# Altium integrated library NSC Amplifier.IntLib: 1615 symbols (part 19 of 44)
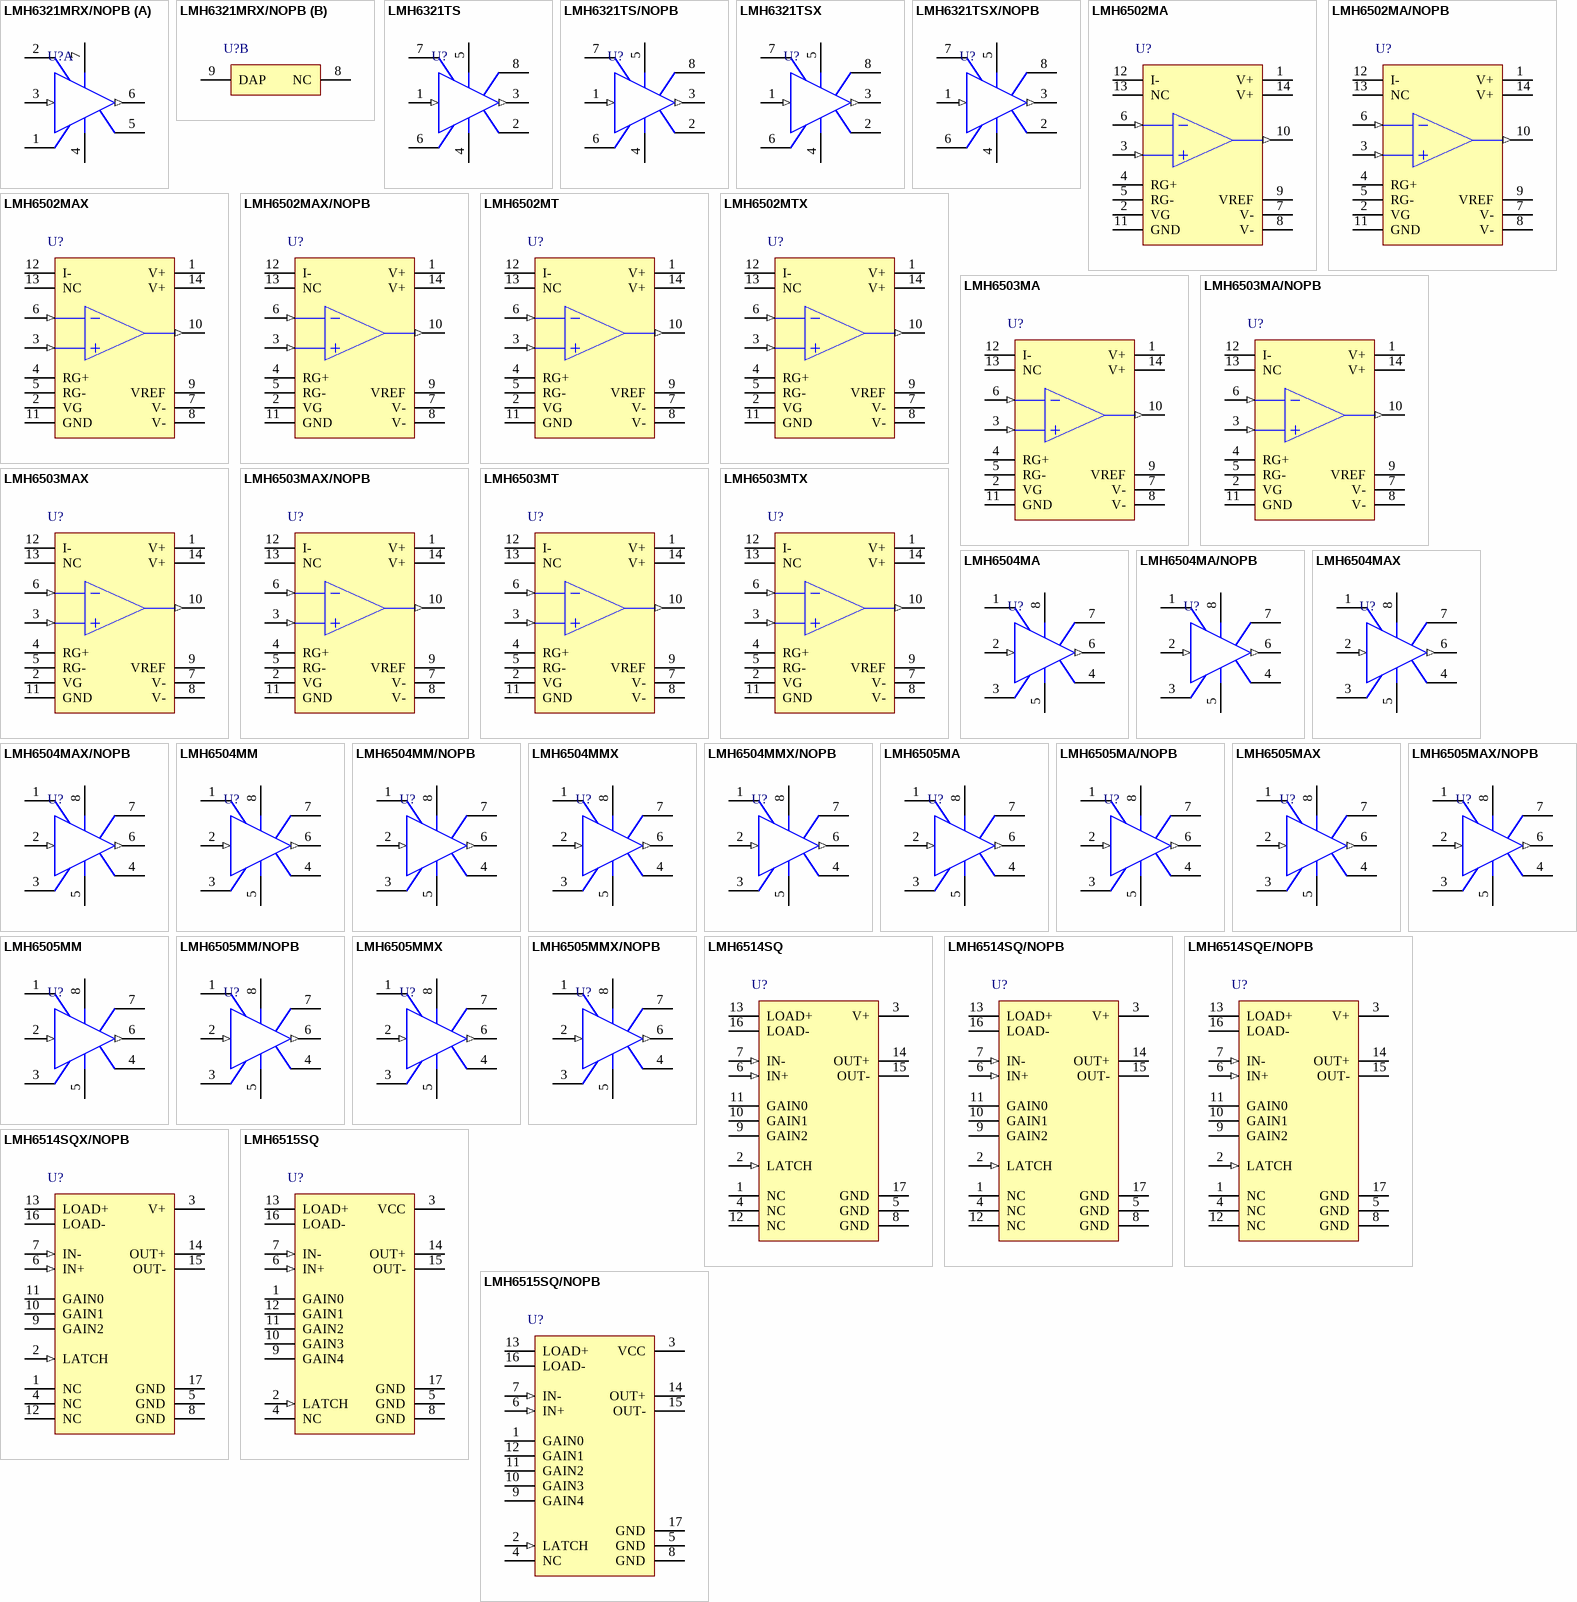
[diagram p100: symbols LMH6321MRX/NOPB to LMH6515SQ/NOPB]

## LMH6321TSX/NOPB
designator U?
300 mA High Speed Buffer with Adjustable Current Limit, 7-pin TO-263, Pb-Free; PartNumber: LMH6321TSX/NOPB; Manufacturer: National Semiconductor; PackageTopMarking: NSUZXYTTE#*LMH6321TS; PowerWise: N; CompType: Amplifiers; Published: 1-Mar-2010; DatasheetVersion: Apr-2007; PackageVersion: revE, Jul-2003; PackageReference: TS7B; Publisher: Altium Limited; PackageDescription: TO-263, Molded, .400 x .390 x .180in Body, 7 Lead, .050in Pitch, Surface Mount; Supplier 1: Digi-Key; Supplier Part Number 1: LMH6321TSX-ND; RoHS: Y; PinCount: 7; Code_JEDEC: MO-169-AC; ComponentLink1Description: LMH6321 Datasheet; ComponentLink1URL: http://www.national.com/ds/LM/LMH6321.pdf; ComponentLink2Description: LMH6321 Web Page; ComponentLink2URL: http://www.national.com/pf/LM/LMH6321.html; ComponentLink3Description: TS7B Package Page; ComponentLink3URL: http://www.national.com/packaging/folders/ts7b.html
footprint TS7B_N (D2-PAK, 8-Leads, Body 8.6x10.2mm, Pitch 1.27mm, Lead Span 14.1mm, IPC Medium Density)
footprint TS7B_L (D2-PAK, 8-Leads, Body 8.6x10.2mm, Pitch 1.27mm, Lead Span 14.1mm, IPC High Density)
footprint TS7B_M (D2-PAK, 8-Leads, Body 8.6x10.2mm, Pitch 1.27mm, Lead Span 14.1mm, IPC Low Density)
simulation model LMH6321 (SUBCKT)
pins: 1 IN (in), 2 GND (power), 3 OUT (out), 4 V- (power), 5 V+ (power), 6 EF, 7 CL, 8 TAB

## LMH6502MA
designator U?
Wideband, Low Power, Linear-in-dB Variable Gain Amplifier, 14-pin Narrow SOIC; PartNumber: LMH6502MA; Manufacturer: National Semiconductor; PackageTopMarking: NSUZXYTTE#*LMH6502MA; PowerWise: N; CompType: Amplifiers; Published: 4-Dec-2008; LatestRevisionDate: 13-Jan-2009; LatestRevisionNote: Sim Model Added.; DatasheetVersion: Jun-2004; PackageVersion: revJ, Jan-1996; PackageReference: M14A; Publisher: Altium Limited; PackageDescription: Molded Package S.O., .150in Wide, 14 Lead; Supplier 1: Farnell; Supplier Part Number 1: 8181047; RoHS: N; PinCount: 14; Code_JEDEC: MS-012AB; Code_IPC: SOIC127P600-14; ComponentLink1Description: LMH6502 Datasheet; ComponentLink1URL: http://www.national.com/ds/LM/LMH6502.pdf; ComponentLink2Description: LMH6502 Web Page; ComponentLink2URL: http://www.national.com/pf/LM/LMH6502.html; ComponentLink3Description: M14A Package Page; ComponentLink3URL: http://www.national.com/packaging/folders/m14a.html
footprint M14A_N (SOIC, 14-Leads, Body 8.6x3.9mm, Pitch 1.27mm, IPC Medium Density)
footprint M14A_L (SOIC, 14-Leads, Body 8.6x3.9mm, Pitch 1.27mm, IPC High Density)
footprint M14A_M (SOIC, 14-Leads, Body 8.6x3.9mm, Pitch 1.27mm, IPC Low Density)
simulation model LMH6502 (SUBCKT)
pins: 1 V+ (power), 2 VG, 3 VIN+ (in), 4 RG+, 5 RG-, 6 VIN- (in), 7 V- (power), 8 V- (power), 9 VREF, 10 VOUT (out), 11 GND (power), 12 I-, 13 NC, 14 V+ (power)

## LMH6502MA/NOPB
designator U?
Wideband, Low Power, Linear-in-dB Variable Gain Amplifier, 14-pin Narrow SOIC, Pb-Free; PartNumber: LMH6502MA/NOPB; Manufacturer: National Semiconductor; PackageTopMarking: NSUZXYTTE#*LMH6502MA; PowerWise: N; CompType: Amplifiers; Published: 1-Mar-2010; DatasheetVersion: Jun-2004; PackageVersion: revJ, Jan-1996; PackageReference: M14A; Publisher: Altium Limited; PackageDescription: Molded Package S.O., .150in Wide, 14 Lead; Supplier 1: Digi-Key; Supplier Part Number 1: LMH6502MA-ND; Supplier 2: Farnell; Supplier Part Number 2: 1693951; RoHS: Y; PinCount: 14; Code_JEDEC: MS-012AB; Code_IPC: SOIC127P600-14; ComponentLink1Description: LMH6502 Datasheet; ComponentLink1URL: http://www.national.com/ds/LM/LMH6502.pdf; ComponentLink2Description: LMH6502 Web Page; ComponentLink2URL: http://www.national.com/pf/LM/LMH6502.html; ComponentLink3Description: M14A Package Page; ComponentLink3URL: http://www.national.com/packaging/folders/m14a.html
footprint M14A_N (SOIC, 14-Leads, Body 8.6x3.9mm, Pitch 1.27mm, IPC Medium Density)
footprint M14A_L (SOIC, 14-Leads, Body 8.6x3.9mm, Pitch 1.27mm, IPC High Density)
footprint M14A_M (SOIC, 14-Leads, Body 8.6x3.9mm, Pitch 1.27mm, IPC Low Density)
simulation model LMH6502 (SUBCKT)
pins: 1 V+ (power), 2 VG, 3 VIN+ (in), 4 RG+, 5 RG-, 6 VIN- (in), 7 V- (power), 8 V- (power), 9 VREF, 10 VOUT (out), 11 GND (power), 12 I-, 13 NC, 14 V+ (power)

## LMH6502MAX
designator U?
Wideband, Low Power, Linear-in-dB Variable Gain Amplifier, 14-pin Narrow SOIC; PartNumber: LMH6502MAX; Manufacturer: National Semiconductor; PackageTopMarking: NSUZXYTTE#*LMH6502MA; PowerWise: N; CompType: Amplifiers; Published: 1-Mar-2010; DatasheetVersion: Jun-2004; PackageVersion: revJ, Jan-1996; PackageReference: M14A; Publisher: Altium Limited; PackageDescription: Molded Package S.O., .150in Wide, 14 Lead; RoHS: N; PinCount: 14; Code_JEDEC: MS-012AB; Code_IPC: SOIC127P600-14; ComponentLink1Description: LMH6502 Datasheet; ComponentLink1URL: http://www.national.com/ds/LM/LMH6502.pdf; ComponentLink2Description: LMH6502 Web Page; ComponentLink2URL: http://www.national.com/pf/LM/LMH6502.html; ComponentLink3Description: M14A Package Page; ComponentLink3URL: http://www.national.com/packaging/folders/m14a.html
footprint M14A_N (SOIC, 14-Leads, Body 8.6x3.9mm, Pitch 1.27mm, IPC Medium Density)
footprint M14A_L (SOIC, 14-Leads, Body 8.6x3.9mm, Pitch 1.27mm, IPC High Density)
footprint M14A_M (SOIC, 14-Leads, Body 8.6x3.9mm, Pitch 1.27mm, IPC Low Density)
simulation model LMH6502 (SUBCKT)
pins: 1 V+ (power), 2 VG, 3 VIN+ (in), 4 RG+, 5 RG-, 6 VIN- (in), 7 V- (power), 8 V- (power), 9 VREF, 10 VOUT (out), 11 GND (power), 12 I-, 13 NC, 14 V+ (power)

## LMH6502MAX/NOPB
designator U?
Wideband, Low Power, Linear-in-dB Variable Gain Amplifier, 14-pin Narrow SOIC, Pb-Free; PartNumber: LMH6502MAX/NOPB; Manufacturer: National Semiconductor; PackageTopMarking: NSUZXYTTE#*LMH6502MA; PowerWise: N; CompType: Amplifiers; Published: 1-Mar-2010; DatasheetVersion: Jun-2004; PackageVersion: revJ, Jan-1996; PackageReference: M14A; Publisher: Altium Limited; PackageDescription: Molded Package S.O., .150in Wide, 14 Lead; Supplier 1: Digi-Key; Supplier Part Number 1: LMH6502MAX-ND; RoHS: Y; PinCount: 14; Code_JEDEC: MS-012AB; Code_IPC: SOIC127P600-14; ComponentLink1Description: LMH6502 Datasheet; ComponentLink1URL: http://www.national.com/ds/LM/LMH6502.pdf; ComponentLink2Description: LMH6502 Web Page; ComponentLink2URL: http://www.national.com/pf/LM/LMH6502.html; ComponentLink3Description: M14A Package Page; ComponentLink3URL: http://www.national.com/packaging/folders/m14a.html
footprint M14A_N (SOIC, 14-Leads, Body 8.6x3.9mm, Pitch 1.27mm, IPC Medium Density)
footprint M14A_L (SOIC, 14-Leads, Body 8.6x3.9mm, Pitch 1.27mm, IPC High Density)
footprint M14A_M (SOIC, 14-Leads, Body 8.6x3.9mm, Pitch 1.27mm, IPC Low Density)
simulation model LMH6502 (SUBCKT)
pins: 1 V+ (power), 2 VG, 3 VIN+ (in), 4 RG+, 5 RG-, 6 VIN- (in), 7 V- (power), 8 V- (power), 9 VREF, 10 VOUT (out), 11 GND (power), 12 I-, 13 NC, 14 V+ (power)

## LMH6502MT
designator U?
Wideband, Low Power, Linear-in-dB Variable Gain Amplifier, 14-pin TSSOP; PartNumber: LMH6502MT; Manufacturer: National Semiconductor; PackageTopMarking: NSUZXYTT*LMH65*02MT; PowerWise: N; CompType: Amplifiers; Published: 4-Dec-2008; LatestRevisionDate: 13-Jan-2009; LatestRevisionNote: Sim Model Added.; DatasheetVersion: Jun-2004; PackageVersion: revD, Jun-2003; PackageReference: MTC14; Publisher: Altium Limited; PackageDescription: Molded TSSOP, JEDEC, 5 x 4.4 x 0.9mm Body, 14 Lead, 0.65mm Pitch; Supplier 1: Farnell; Supplier Part Number 1: 8181055; RoHS: N; PinCount: 14; Code_JEDEC: MO-153-AB-1; ComponentLink1Description: LMH6502 Datasheet; ComponentLink1URL: http://www.national.com/ds/LM/LMH6502.pdf; ComponentLink2Description: LMH6502 Web Page; ComponentLink2URL: http://www.national.com/pf/LM/LMH6502.html; ComponentLink3Description: MTC14 Package Page; ComponentLink3URL: http://www.national.com/packaging/folders/mtc14.html
footprint MTC14_N (TSOP, 14-Leads, Body 5x4.4mm, Pitch 0.65mm, IPC Medium Density)
footprint MTC14_L (TSOP, 14-Leads, Body 5x4.4mm, Pitch 0.65mm, IPC High Density)
footprint MTC14_M (TSOP, 14-Leads, Body 5x4.4mm, Pitch 0.65mm, IPC Low Density)
simulation model LMH6502 (SUBCKT)
pins: 1 V+ (power), 2 VG, 3 VIN+ (in), 4 RG+, 5 RG-, 6 VIN- (in), 7 V- (power), 8 V- (power), 9 VREF, 10 VOUT (out), 11 GND (power), 12 I-, 13 NC, 14 V+ (power)

## LMH6502MTX
designator U?
Wideband, Low Power, Linear-in-dB Variable Gain Amplifier, 14-pin TSSOP; PartNumber: LMH6502MTX; Manufacturer: National Semiconductor; PackageTopMarking: NSUZXYTT*LMH65*02MT; PowerWise: N; CompType: Amplifiers; Published: 1-Mar-2010; DatasheetVersion: Jun-2004; PackageVersion: revD, Jun-2003; PackageReference: MTC14; Publisher: Altium Limited; PackageDescription: Molded TSSOP, JEDEC, 5 x 4.4 x 0.9mm Body, 14 Lead, 0.65mm Pitch; RoHS: N; PinCount: 14; Code_JEDEC: MO-153-AB-1; ComponentLink1Description: LMH6502 Datasheet; ComponentLink1URL: http://www.national.com/ds/LM/LMH6502.pdf; ComponentLink2Description: LMH6502 Web Page; ComponentLink2URL: http://www.national.com/pf/LM/LMH6502.html; ComponentLink3Description: MTC14 Package Page; ComponentLink3URL: http://www.national.com/packaging/folders/mtc14.html
footprint MTC14_N (TSOP, 14-Leads, Body 5x4.4mm, Pitch 0.65mm, IPC Medium Density)
footprint MTC14_L (TSOP, 14-Leads, Body 5x4.4mm, Pitch 0.65mm, IPC High Density)
footprint MTC14_M (TSOP, 14-Leads, Body 5x4.4mm, Pitch 0.65mm, IPC Low Density)
simulation model LMH6502 (SUBCKT)
pins: 1 V+ (power), 2 VG, 3 VIN+ (in), 4 RG+, 5 RG-, 6 VIN- (in), 7 V- (power), 8 V- (power), 9 VREF, 10 VOUT (out), 11 GND (power), 12 I-, 13 NC, 14 V+ (power)

## LMH6503MA
designator U?
Wideband, Low Power, Linear Variable Gain Amplifier, 14-pin Narrow SOIC; PartNumber: LMH6503MA; Manufacturer: National Semiconductor; PackageTopMarking: NSUZXYTTE#*LMH6503MA; PowerWise: N; CompType: Amplifiers; Published: 4-Dec-2008; LatestRevisionDate: 13-Jan-2009; LatestRevisionNote: Sim Model Added.; DatasheetVersion: Jun-2004; PackageVersion: revJ, Jan-1996; PackageReference: M14A; Publisher: Altium Limited; PackageDescription: Molded Package S.O., .150in Wide, 14 Lead; Supplier 1: Farnell; Supplier Part Number 1: 8181063; RoHS: N; PinCount: 14; Code_JEDEC: MS-012AB; Code_IPC: SOIC127P600-14; ComponentLink1Description: LMH6503 Datasheet; ComponentLink1URL: http://www.national.com/ds/LM/LMH6503.pdf; ComponentLink2Description: LMH6503 Web Page; ComponentLink2URL: http://www.national.com/pf/LM/LMH6503.html; ComponentLink3Description: M14A Package Page; ComponentLink3URL: http://www.national.com/packaging/folders/m14a.html
footprint M14A_N (SOIC, 14-Leads, Body 8.6x3.9mm, Pitch 1.27mm, IPC Medium Density)
footprint M14A_L (SOIC, 14-Leads, Body 8.6x3.9mm, Pitch 1.27mm, IPC High Density)
footprint M14A_M (SOIC, 14-Leads, Body 8.6x3.9mm, Pitch 1.27mm, IPC Low Density)
simulation model LMH6503 (SUBCKT)
pins: 1 V+ (power), 2 VG, 3 VIN+ (in), 4 RG+, 5 RG-, 6 VIN- (in), 7 V- (power), 8 V- (power), 9 VREF, 10 VOUT (out), 11 GND (power), 12 I-, 13 NC, 14 V+ (power)

## LMH6503MA/NOPB
designator U?
Wideband, Low Power, Linear Variable Gain Amplifier, 14-pin Narrow SOIC, Pb-Free; PartNumber: LMH6503MA/NOPB; Manufacturer: National Semiconductor; PackageTopMarking: NSUZXYTTE#*LMH6503MA; PowerWise: N; CompType: Amplifiers; Published: 1-Mar-2010; DatasheetVersion: Jun-2004; PackageVersion: revJ, Jan-1996; PackageReference: M14A; Publisher: Altium Limited; PackageDescription: Molded Package S.O., .150in Wide, 14 Lead; Supplier 1: Digi-Key; Supplier Part Number 1: LMH6503MA-ND; RoHS: Y; PinCount: 14; Code_JEDEC: MS-012AB; Code_IPC: SOIC127P600-14; ComponentLink1Description: LMH6503 Datasheet; ComponentLink1URL: http://www.national.com/ds/LM/LMH6503.pdf; ComponentLink2Description: LMH6503 Web Page; ComponentLink2URL: http://www.national.com/pf/LM/LMH6503.html; ComponentLink3Description: M14A Package Page; ComponentLink3URL: http://www.national.com/packaging/folders/m14a.html
footprint M14A_N (SOIC, 14-Leads, Body 8.6x3.9mm, Pitch 1.27mm, IPC Medium Density)
footprint M14A_L (SOIC, 14-Leads, Body 8.6x3.9mm, Pitch 1.27mm, IPC High Density)
footprint M14A_M (SOIC, 14-Leads, Body 8.6x3.9mm, Pitch 1.27mm, IPC Low Density)
simulation model LMH6503 (SUBCKT)
pins: 1 V+ (power), 2 VG, 3 VIN+ (in), 4 RG+, 5 RG-, 6 VIN- (in), 7 V- (power), 8 V- (power), 9 VREF, 10 VOUT (out), 11 GND (power), 12 I-, 13 NC, 14 V+ (power)

## LMH6503MAX
designator U?
Wideband, Low Power, Linear Variable Gain Amplifier, 14-pin Narrow SOIC; PartNumber: LMH6503MAX; Manufacturer: National Semiconductor; PackageTopMarking: NSUZXYTTE#*LMH6503MA; PowerWise: N; CompType: Amplifiers; Published: 1-Mar-2010; DatasheetVersion: Jun-2004; PackageVersion: revJ, Jan-1996; PackageReference: M14A; Publisher: Altium Limited; PackageDescription: Molded Package S.O., .150in Wide, 14 Lead; RoHS: N; PinCount: 14; Code_JEDEC: MS-012AB; Code_IPC: SOIC127P600-14; ComponentLink1Description: LMH6503 Datasheet; ComponentLink1URL: http://www.national.com/ds/LM/LMH6503.pdf; ComponentLink2Description: LMH6503 Web Page; ComponentLink2URL: http://www.national.com/pf/LM/LMH6503.html; ComponentLink3Description: M14A Package Page; ComponentLink3URL: http://www.national.com/packaging/folders/m14a.html
footprint M14A_N (SOIC, 14-Leads, Body 8.6x3.9mm, Pitch 1.27mm, IPC Medium Density)
footprint M14A_L (SOIC, 14-Leads, Body 8.6x3.9mm, Pitch 1.27mm, IPC High Density)
footprint M14A_M (SOIC, 14-Leads, Body 8.6x3.9mm, Pitch 1.27mm, IPC Low Density)
simulation model LMH6503 (SUBCKT)
pins: 1 V+ (power), 2 VG, 3 VIN+ (in), 4 RG+, 5 RG-, 6 VIN- (in), 7 V- (power), 8 V- (power), 9 VREF, 10 VOUT (out), 11 GND (power), 12 I-, 13 NC, 14 V+ (power)

## LMH6503MAX/NOPB
designator U?
Wideband, Low Power, Linear Variable Gain Amplifier, 14-pin Narrow SOIC, Pb-Free; PartNumber: LMH6503MAX/NOPB; Manufacturer: National Semiconductor; PackageTopMarking: NSUZXYTTE#*LMH6503MA; PowerWise: N; CompType: Amplifiers; Published: 1-Mar-2010; DatasheetVersion: Jun-2004; PackageVersion: revJ, Jan-1996; PackageReference: M14A; Publisher: Altium Limited; PackageDescription: Molded Package S.O., .150in Wide, 14 Lead; Supplier 1: Digi-Key; Supplier Part Number 1: LMH6503MAX-ND; RoHS: Y; PinCount: 14; Code_JEDEC: MS-012AB; Code_IPC: SOIC127P600-14; ComponentLink1Description: LMH6503 Datasheet; ComponentLink1URL: http://www.national.com/ds/LM/LMH6503.pdf; ComponentLink2Description: LMH6503 Web Page; ComponentLink2URL: http://www.national.com/pf/LM/LMH6503.html; ComponentLink3Description: M14A Package Page; ComponentLink3URL: http://www.national.com/packaging/folders/m14a.html
footprint M14A_N (SOIC, 14-Leads, Body 8.6x3.9mm, Pitch 1.27mm, IPC Medium Density)
footprint M14A_L (SOIC, 14-Leads, Body 8.6x3.9mm, Pitch 1.27mm, IPC High Density)
footprint M14A_M (SOIC, 14-Leads, Body 8.6x3.9mm, Pitch 1.27mm, IPC Low Density)
simulation model LMH6503 (SUBCKT)
pins: 1 V+ (power), 2 VG, 3 VIN+ (in), 4 RG+, 5 RG-, 6 VIN- (in), 7 V- (power), 8 V- (power), 9 VREF, 10 VOUT (out), 11 GND (power), 12 I-, 13 NC, 14 V+ (power)

## LMH6503MT
designator U?
Wideband, Low Power, Linear Variable Gain Amplifier, 14-pin TSSOP; PartNumber: LMH6503MT; Manufacturer: National Semiconductor; PackageTopMarking: NSUZXYTT*LMH65*03MT; PowerWise: N; CompType: Amplifiers; Published: 4-Dec-2008; LatestRevisionDate: 13-Jan-2009; LatestRevisionNote: Sim Model Added.; DatasheetVersion: Jun-2004; PackageVersion: revD, Jun-2003; PackageReference: MTC14; Publisher: Altium Limited; PackageDescription: Molded TSSOP, JEDEC, 5 x 4.4 x 0.9mm Body, 14 Lead, 0.65mm Pitch; Supplier 1: Farnell; Supplier Part Number 1: 8181071; RoHS: N; PinCount: 14; Code_JEDEC: MO-153-AB-1; ComponentLink1Description: LMH6503 Datasheet; ComponentLink1URL: http://www.national.com/ds/LM/LMH6503.pdf; ComponentLink2Description: LMH6503 Web Page; ComponentLink2URL: http://www.national.com/pf/LM/LMH6503.html; ComponentLink3Description: MTC14 Package Page; ComponentLink3URL: http://www.national.com/packaging/folders/mtc14.html
footprint MTC14_N (TSOP, 14-Leads, Body 5x4.4mm, Pitch 0.65mm, IPC Medium Density)
footprint MTC14_L (TSOP, 14-Leads, Body 5x4.4mm, Pitch 0.65mm, IPC High Density)
footprint MTC14_M (TSOP, 14-Leads, Body 5x4.4mm, Pitch 0.65mm, IPC Low Density)
simulation model LMH6503 (SUBCKT)
pins: 1 V+ (power), 2 VG, 3 VIN+ (in), 4 RG+, 5 RG-, 6 VIN- (in), 7 V- (power), 8 V- (power), 9 VREF, 10 VOUT (out), 11 GND (power), 12 I-, 13 NC, 14 V+ (power)

## LMH6503MTX
designator U?
Wideband, Low Power, Linear Variable Gain Amplifier, 14-pin TSSOP; PartNumber: LMH6503MTX; Manufacturer: National Semiconductor; PackageTopMarking: NSUZXYTT*LMH65*03MT; PowerWise: N; CompType: Amplifiers; Published: 1-Mar-2010; DatasheetVersion: Jun-2004; PackageVersion: revD, Jun-2003; PackageReference: MTC14; Publisher: Altium Limited; PackageDescription: Molded TSSOP, JEDEC, 5 x 4.4 x 0.9mm Body, 14 Lead, 0.65mm Pitch; RoHS: N; PinCount: 14; Code_JEDEC: MO-153-AB-1; ComponentLink1Description: LMH6503 Datasheet; ComponentLink1URL: http://www.national.com/ds/LM/LMH6503.pdf; ComponentLink2Description: LMH6503 Web Page; ComponentLink2URL: http://www.national.com/pf/LM/LMH6503.html; ComponentLink3Description: MTC14 Package Page; ComponentLink3URL: http://www.national.com/packaging/folders/mtc14.html
footprint MTC14_N (TSOP, 14-Leads, Body 5x4.4mm, Pitch 0.65mm, IPC Medium Density)
footprint MTC14_L (TSOP, 14-Leads, Body 5x4.4mm, Pitch 0.65mm, IPC High Density)
footprint MTC14_M (TSOP, 14-Leads, Body 5x4.4mm, Pitch 0.65mm, IPC Low Density)
simulation model LMH6503 (SUBCKT)
pins: 1 V+ (power), 2 VG, 3 VIN+ (in), 4 RG+, 5 RG-, 6 VIN- (in), 7 V- (power), 8 V- (power), 9 VREF, 10 VOUT (out), 11 GND (power), 12 I-, 13 NC, 14 V+ (power)

## LMH6504MA
designator U?
Wideband, Low Power, Variable Gain Amplifier, 8 pin SOIC NARROW; PartNumber: LMH6504MA; Manufacturer: National Semiconductor; PackageTopMarking: NSZXTT*LMH65*04MA; PowerWise: N; CompType: Amplifiers; Published: 16-Nov-2010; DatasheetVersion: Sep-2006; PackageVersion: revM, May-2009; PackageReference: M08A; Publisher: Altium Limited; PackageDescription: SOIC Narrow, 4.9 x 3.9 x 1.45mm, 8 Lead, 1.27mm Pitch; Supplier 1: Farnell; Supplier Part Number 1: 8180717; RoHS: N; PinCount: 8; Code_JEDEC: MS-012-AA; Code_IPC: SOIC127P600-8; ComponentLink1Description: LMH6504 Datasheet; ComponentLink1URL: http://www.national.com/ds/LM/LMH6504.pdf; ComponentLink2Description: LMH6504 Web Page; ComponentLink2URL: http://www.national.com/pf/LM/LMH6504.html; ComponentLink3Description: M08A Package Page; ComponentLink3URL: http://www.national.com/packaging/folders/m08a.html
footprint M08A_N (SOIC, 8-Leads, Body 4.9x3.9mm, Pitch 1.27mm, IPC Medium Density)
footprint M08A_L (SOIC, 8-Leads, Body 4.9x3.9mm, Pitch 1.27mm, IPC High Density)
footprint M08A_M (SOIC, 8-Leads, Body 4.9x3.9mm, Pitch 1.27mm, IPC Low Density)
pins: 1 VG, 2 VIN (in), 3 RG, 4 GND (power), 5 V- (power), 6 VOUT (out), 7 I-, 8 V+ (power)

## LMH6504MA/NOPB
designator U?
Wideband, Low Power, Variable Gain Amplifier, 8 pin SOIC NARROW; PartNumber: LMH6504MA/NOPB; Manufacturer: National Semiconductor; PackageTopMarking: NSZXTT*LMH65*04MA; PowerWise: N; CompType: Amplifiers; Published: 16-Nov-2010; DatasheetVersion: Sep-2006; PackageVersion: revM, May-2009; PackageReference: M08A; Publisher: Altium Limited; PackageDescription: SOIC Narrow, 4.9 x 3.9 x 1.45mm, 8 Lead, 1.27mm Pitch; Supplier 1: Digi-Key; Supplier Part Number 1: LMH6504MA-ND; RoHS: Y; PinCount: 8; Code_JEDEC: MS-012-AA; Code_IPC: SOIC127P600-8; ComponentLink1Description: LMH6504 Datasheet; ComponentLink1URL: http://www.national.com/ds/LM/LMH6504.pdf; ComponentLink2Description: LMH6504 Web Page; ComponentLink2URL: http://www.national.com/pf/LM/LMH6504.html; ComponentLink3Description: M08A Package Page; ComponentLink3URL: http://www.national.com/packaging/folders/m08a.html
footprint M08A_N (SOIC, 8-Leads, Body 4.9x3.9mm, Pitch 1.27mm, IPC Medium Density)
footprint M08A_L (SOIC, 8-Leads, Body 4.9x3.9mm, Pitch 1.27mm, IPC High Density)
footprint M08A_M (SOIC, 8-Leads, Body 4.9x3.9mm, Pitch 1.27mm, IPC Low Density)
pins: 1 VG, 2 VIN (in), 3 RG, 4 GND (power), 5 V- (power), 6 VOUT (out), 7 I-, 8 V+ (power)

## LMH6504MAX
designator U?
Wideband, Low Power, Variable Gain Amplifier, 8 pin SOIC NARROW; PartNumber: LMH6504MAX; Manufacturer: National Semiconductor; PackageTopMarking: NSZXTT*LMH65*04MA; PowerWise: N; CompType: Amplifiers; Published: 16-Nov-2010; DatasheetVersion: Sep-2006; PackageVersion: revM, May-2009; PackageReference: M08A; Publisher: Altium Limited; PackageDescription: SOIC Narrow, 4.9 x 3.9 x 1.45mm, 8 Lead, 1.27mm Pitch; RoHS: N; PinCount: 8; Code_JEDEC: MS-012-AA; Code_IPC: SOIC127P600-8; ComponentLink1Description: LMH6504 Datasheet; ComponentLink1URL: http://www.national.com/ds/LM/LMH6504.pdf; ComponentLink2Description: LMH6504 Web Page; ComponentLink2URL: http://www.national.com/pf/LM/LMH6504.html; ComponentLink3Description: M08A Package Page; ComponentLink3URL: http://www.national.com/packaging/folders/m08a.html
footprint M08A_N (SOIC, 8-Leads, Body 4.9x3.9mm, Pitch 1.27mm, IPC Medium Density)
footprint M08A_L (SOIC, 8-Leads, Body 4.9x3.9mm, Pitch 1.27mm, IPC High Density)
footprint M08A_M (SOIC, 8-Leads, Body 4.9x3.9mm, Pitch 1.27mm, IPC Low Density)
pins: 1 VG, 2 VIN (in), 3 RG, 4 GND (power), 5 V- (power), 6 VOUT (out), 7 I-, 8 V+ (power)

## LMH6504MAX/NOPB
designator U?
Wideband, Low Power, Variable Gain Amplifier, 8 pin SOIC NARROW; PartNumber: LMH6504MAX/NOPB; Manufacturer: National Semiconductor; PackageTopMarking: NSZXTT*LMH65*04MA; PowerWise: N; CompType: Amplifiers; Published: 16-Nov-2010; DatasheetVersion: Sep-2006; PackageVersion: revM, May-2009; PackageReference: M08A; Publisher: Altium Limited; PackageDescription: SOIC Narrow, 4.9 x 3.9 x 1.45mm, 8 Lead, 1.27mm Pitch; RoHS: Y; PinCount: 8; Code_JEDEC: MS-012-AA; Code_IPC: SOIC127P600-8; ComponentLink1Description: LMH6504 Datasheet; ComponentLink1URL: http://www.national.com/ds/LM/LMH6504.pdf; ComponentLink2Description: LMH6504 Web Page; ComponentLink2URL: http://www.national.com/pf/LM/LMH6504.html; ComponentLink3Description: M08A Package Page; ComponentLink3URL: http://www.national.com/packaging/folders/m08a.html
footprint M08A_N (SOIC, 8-Leads, Body 4.9x3.9mm, Pitch 1.27mm, IPC Medium Density)
footprint M08A_L (SOIC, 8-Leads, Body 4.9x3.9mm, Pitch 1.27mm, IPC High Density)
footprint M08A_M (SOIC, 8-Leads, Body 4.9x3.9mm, Pitch 1.27mm, IPC Low Density)
pins: 1 VG, 2 VIN (in), 3 RG, 4 GND (power), 5 V- (power), 6 VOUT (out), 7 I-, 8 V+ (power)

## LMH6504MM
designator U?
Wideband, Low Power, Variable Gain Amplifier, 8 pin MINI SOIC; PartNumber: LMH6504MM; Manufacturer: National Semiconductor; PackageTopMarking: ZXTT*A93A; PowerWise: N; CompType: Amplifiers; Published: 16-Nov-2010; DatasheetVersion: Sep-2006; PackageVersion: revF, Apr-2008; PackageReference: MUA08A; Publisher: Altium Limited; PackageDescription: MINI SOIC, .118 x .118 x .034in, 8 Lead, .0256in Pitch; Supplier 1: Farnell; Supplier Part Number 1: 8180725; RoHS: N; PinCount: 8; Code_JEDEC: MO-187-AA; ComponentLink1Description: LMH6504 Datasheet; ComponentLink1URL: http://www.national.com/ds/LM/LMH6504.pdf; ComponentLink2Description: LMH6504 Web Page; ComponentLink2URL: http://www.national.com/pf/LM/LMH6504.html; ComponentLink3Description: MUA08A Package Page; ComponentLink3URL: http://www.national.com/packaging/folders/mua08a.html
footprint MUA08A_N (TSOP, 8-Leads, Body 3x3mm, Pitch 0.65mm, IPC Medium Density)
footprint MUA08A_L (TSOP, 8-Leads, Body 3x3mm, Pitch 0.65mm, IPC High Density)
footprint MUA08A_M (TSOP, 8-Leads, Body 3x3mm, Pitch 0.65mm, IPC Low Density)
pins: 1 VG, 2 VIN (in), 3 RG, 4 GND (power), 5 V- (power), 6 VOUT (out), 7 I-, 8 V+ (power)

## LMH6504MM/NOPB
designator U?
Wideband, Low Power, Variable Gain Amplifier, 8 pin MINI SOIC; PartNumber: LMH6504MM/NOPB; Manufacturer: National Semiconductor; PackageTopMarking: ZXTT*A93A; PowerWise: N; CompType: Amplifiers; Published: 16-Nov-2010; DatasheetVersion: Sep-2006; PackageVersion: revF, Apr-2008; PackageReference: MUA08A; Publisher: Altium Limited; PackageDescription: MINI SOIC, .118 x .118 x .034in, 8 Lead, .0256in Pitch; Supplier 1: Digi-Key; Supplier Part Number 1: LMH6504MMTR-ND; Supplier 2: Digi-Key; Supplier Part Number 2: LMH6504MMCT-ND; Supplier 3: Digi-Key; Supplier Part Number 3: LMH6504MMDKR-ND; RoHS: Y; PinCount: 8; Code_JEDEC: MO-187-AA; ComponentLink1Description: LMH6504 Datasheet; ComponentLink1URL: http://www.national.com/ds/LM/LMH6504.pdf; ComponentLink2Description: LMH6504 Web Page; ComponentLink2URL: http://www.national.com/pf/LM/LMH6504.html; ComponentLink3Description: MUA08A Package Page; ComponentLink3URL: http://www.national.com/packaging/folders/mua08a.html
footprint MUA08A_N (TSOP, 8-Leads, Body 3x3mm, Pitch 0.65mm, IPC Medium Density)
footprint MUA08A_L (TSOP, 8-Leads, Body 3x3mm, Pitch 0.65mm, IPC High Density)
footprint MUA08A_M (TSOP, 8-Leads, Body 3x3mm, Pitch 0.65mm, IPC Low Density)
pins: 1 VG, 2 VIN (in), 3 RG, 4 GND (power), 5 V- (power), 6 VOUT (out), 7 I-, 8 V+ (power)

## LMH6504MMX
designator U?
Wideband, Low Power, Variable Gain Amplifier, 8 pin MINI SOIC; PartNumber: LMH6504MMX; Manufacturer: National Semiconductor; PackageTopMarking: ZXTT*A93A; PowerWise: N; CompType: Amplifiers; Published: 16-Nov-2010; DatasheetVersion: Sep-2006; PackageVersion: revF, Apr-2008; PackageReference: MUA08A; Publisher: Altium Limited; PackageDescription: MINI SOIC, .118 x .118 x .034in, 8 Lead, .0256in Pitch; RoHS: N; PinCount: 8; Code_JEDEC: MO-187-AA; ComponentLink1Description: LMH6504 Datasheet; ComponentLink1URL: http://www.national.com/ds/LM/LMH6504.pdf; ComponentLink2Description: LMH6504 Web Page; ComponentLink2URL: http://www.national.com/pf/LM/LMH6504.html; ComponentLink3Description: MUA08A Package Page; ComponentLink3URL: http://www.national.com/packaging/folders/mua08a.html
footprint MUA08A_N (TSOP, 8-Leads, Body 3x3mm, Pitch 0.65mm, IPC Medium Density)
footprint MUA08A_L (TSOP, 8-Leads, Body 3x3mm, Pitch 0.65mm, IPC High Density)
footprint MUA08A_M (TSOP, 8-Leads, Body 3x3mm, Pitch 0.65mm, IPC Low Density)
pins: 1 VG, 2 VIN (in), 3 RG, 4 GND (power), 5 V- (power), 6 VOUT (out), 7 I-, 8 V+ (power)

## LMH6504MMX/NOPB
designator U?
Wideband, Low Power, Variable Gain Amplifier, 8 pin MINI SOIC; PartNumber: LMH6504MMX/NOPB; Manufacturer: National Semiconductor; PackageTopMarking: ZXTT*A93A; PowerWise: N; CompType: Amplifiers; Published: 16-Nov-2010; DatasheetVersion: Sep-2006; PackageVersion: revF, Apr-2008; PackageReference: MUA08A; Publisher: Altium Limited; PackageDescription: MINI SOIC, .118 x .118 x .034in, 8 Lead, .0256in Pitch; RoHS: Y; PinCount: 8; Code_JEDEC: MO-187-AA; ComponentLink1Description: LMH6504 Datasheet; ComponentLink1URL: http://www.national.com/ds/LM/LMH6504.pdf; ComponentLink2Description: LMH6504 Web Page; ComponentLink2URL: http://www.national.com/pf/LM/LMH6504.html; ComponentLink3Description: MUA08A Package Page; ComponentLink3URL: http://www.national.com/packaging/folders/mua08a.html
footprint MUA08A_N (TSOP, 8-Leads, Body 3x3mm, Pitch 0.65mm, IPC Medium Density)
footprint MUA08A_L (TSOP, 8-Leads, Body 3x3mm, Pitch 0.65mm, IPC High Density)
footprint MUA08A_M (TSOP, 8-Leads, Body 3x3mm, Pitch 0.65mm, IPC Low Density)
pins: 1 VG, 2 VIN (in), 3 RG, 4 GND (power), 5 V- (power), 6 VOUT (out), 7 I-, 8 V+ (power)

## LMH6505MA
designator U?
Wideband, Low Power, Linear-in-dB, Variable Gain Amplifier, 8-pin Narrow SOIC; PartNumber: LMH6505MA; Manufacturer: National Semiconductor; PackageTopMarking: NSZXTT*LMH65*05MA; PowerWise: Y; CompType: Amplifiers; Published: 4-Dec-2008; LatestRevisionDate: 13-Jan-2009; LatestRevisionNote: Sim Model Added.; DatasheetVersion: Dec-2007; PackageVersion: revM, May-2009; PackageReference: M08A; Publisher: Altium Limited; PackageDescription: SOIC Narrow, 4.9 x 3.9 x 1.45mm, 8 Lead, 1.27mm Pitch; Supplier 1: Farnell; Supplier Part Number 1: 1286774; RoHS: Y; PinCount: 8; Code_JEDEC: MS-012-AA; Code_IPC: SOIC127P600-8; ComponentLink1Description: LMH6505 Datasheet; ComponentLink1URL: http://www.national.com/ds/LM/LMH6505.pdf; ComponentLink2Description: LMH6505 Web Page; ComponentLink2URL: http://www.national.com/pf/LM/LMH6505.html; ComponentLink3Description: M08A Package Page; ComponentLink3URL: http://www.national.com/packaging/folders/m08a.html
footprint M08A_N (SOIC, 8-Leads, Body 4.9x3.9mm, Pitch 1.27mm, IPC Medium Density)
footprint M08A_L (SOIC, 8-Leads, Body 4.9x3.9mm, Pitch 1.27mm, IPC High Density)
footprint M08A_M (SOIC, 8-Leads, Body 4.9x3.9mm, Pitch 1.27mm, IPC Low Density)
simulation model LMH6505 (SUBCKT)
pins: 1 VG, 2 VIN (in), 3 RG, 4 GND (power), 5 V- (power), 6 VOUT (out), 7 I-, 8 V+ (power)

## LMH6505MA/NOPB
designator U?
Wideband, Low Power, Linear-in-dB, Variable Gain Amplifier, 8-pin Narrow SOIC, Pb-Free; PartNumber: LMH6505MA/NOPB; Manufacturer: National Semiconductor; PackageTopMarking: NSZXTT*LMH65*05MA; PowerWise: Y; CompType: Amplifiers; Published: 1-Mar-2010; DatasheetVersion: Dec-2007; PackageVersion: revM, May-2009; PackageReference: M08A; Publisher: Altium Limited; PackageDescription: SOIC Narrow, 4.9 x 3.9 x 1.45mm, 8 Lead, 1.27mm Pitch; Supplier 1: Digi-Key; Supplier Part Number 1: LMH6505MA-ND; Supplier 2: Farnell; Supplier Part Number 2: 1654562; RoHS: Y; PinCount: 8; Code_JEDEC: MS-012-AA; Code_IPC: SOIC127P600-8; ComponentLink1Description: LMH6505 Datasheet; ComponentLink1URL: http://www.national.com/ds/LM/LMH6505.pdf; ComponentLink2Description: LMH6505 Web Page; ComponentLink2URL: http://www.national.com/pf/LM/LMH6505.html; ComponentLink3Description: M08A Package Page; ComponentLink3URL: http://www.national.com/packaging/folders/m08a.html
footprint M08A_N (SOIC, 8-Leads, Body 4.9x3.9mm, Pitch 1.27mm, IPC Medium Density)
footprint M08A_L (SOIC, 8-Leads, Body 4.9x3.9mm, Pitch 1.27mm, IPC High Density)
footprint M08A_M (SOIC, 8-Leads, Body 4.9x3.9mm, Pitch 1.27mm, IPC Low Density)
simulation model LMH6505 (SUBCKT)
pins: 1 VG, 2 VIN (in), 3 RG, 4 GND (power), 5 V- (power), 6 VOUT (out), 7 I-, 8 V+ (power)

## LMH6505MAX
designator U?
Wideband, Low Power, Linear-in-dB, Variable Gain Amplifier, 8-pin Narrow SOIC; PartNumber: LMH6505MAX; Manufacturer: National Semiconductor; PackageTopMarking: NSZXTT*LMH65*05MA; PowerWise: Y; CompType: Amplifiers; Published: 1-Mar-2010; DatasheetVersion: Dec-2007; PackageVersion: revM, May-2009; PackageReference: M08A; Publisher: Altium Limited; PackageDescription: SOIC Narrow, 4.9 x 3.9 x 1.45mm, 8 Lead, 1.27mm Pitch; RoHS: N; PinCount: 8; Code_JEDEC: MS-012-AA; Code_IPC: SOIC127P600-8; ComponentLink1Description: LMH6505 Datasheet; ComponentLink1URL: http://www.national.com/ds/LM/LMH6505.pdf; ComponentLink2Description: LMH6505 Web Page; ComponentLink2URL: http://www.national.com/pf/LM/LMH6505.html; ComponentLink3Description: M08A Package Page; ComponentLink3URL: http://www.national.com/packaging/folders/m08a.html
footprint M08A_N (SOIC, 8-Leads, Body 4.9x3.9mm, Pitch 1.27mm, IPC Medium Density)
footprint M08A_L (SOIC, 8-Leads, Body 4.9x3.9mm, Pitch 1.27mm, IPC High Density)
footprint M08A_M (SOIC, 8-Leads, Body 4.9x3.9mm, Pitch 1.27mm, IPC Low Density)
simulation model LMH6505 (SUBCKT)
pins: 1 VG, 2 VIN (in), 3 RG, 4 GND (power), 5 V- (power), 6 VOUT (out), 7 I-, 8 V+ (power)

## LMH6505MAX/NOPB
designator U?
Wideband, Low Power, Linear-in-dB, Variable Gain Amplifier, 8-pin Narrow SOIC, Pb-Free; PartNumber: LMH6505MAX/NOPB; Manufacturer: National Semiconductor; PackageTopMarking: NSZXTT*LMH65*05MA; PowerWise: Y; CompType: Amplifiers; Published: 1-Mar-2010; DatasheetVersion: Dec-2007; PackageVersion: revM, May-2009; PackageReference: M08A; Publisher: Altium Limited; PackageDescription: SOIC Narrow, 4.9 x 3.9 x 1.45mm, 8 Lead, 1.27mm Pitch; Supplier 1: Digi-Key; Supplier Part Number 1: LMH6505MAX-ND; RoHS: Y; PinCount: 8; Code_JEDEC: MS-012-AA; Code_IPC: SOIC127P600-8; ComponentLink1Description: LMH6505 Datasheet; ComponentLink1URL: http://www.national.com/ds/LM/LMH6505.pdf; ComponentLink2Description: LMH6505 Web Page; ComponentLink2URL: http://www.national.com/pf/LM/LMH6505.html; ComponentLink3Description: M08A Package Page; ComponentLink3URL: http://www.national.com/packaging/folders/m08a.html
footprint M08A_N (SOIC, 8-Leads, Body 4.9x3.9mm, Pitch 1.27mm, IPC Medium Density)
footprint M08A_L (SOIC, 8-Leads, Body 4.9x3.9mm, Pitch 1.27mm, IPC High Density)
footprint M08A_M (SOIC, 8-Leads, Body 4.9x3.9mm, Pitch 1.27mm, IPC Low Density)
simulation model LMH6505 (SUBCKT)
pins: 1 VG, 2 VIN (in), 3 RG, 4 GND (power), 5 V- (power), 6 VOUT (out), 7 I-, 8 V+ (power)

## LMH6505MM
designator U?
Wideband, Low Power, Linear-in-dB, Variable Gain Amplifier, 8-pin Mini SOIC; PartNumber: LMH6505MM; Manufacturer: National Semiconductor; PackageTopMarking: ZXTT*AZ2A; PowerWise: Y; CompType: Amplifiers; Published: 4-Dec-2008; LatestRevisionDate: 13-Jan-2009; LatestRevisionNote: Sim Model Added.; DatasheetVersion: Dec-2007; PackageVersion: revF, Apr-2008; PackageReference: MUA08A; Publisher: Altium Limited; PackageDescription: MINI SOIC, .118 x .118 x .034in, 8 Lead, .0256in Pitch; Supplier 1: Farnell; Supplier Part Number 1: 1312602; RoHS: Y; PinCount: 8; Code_JEDEC: MO-187-AA; ComponentLink1Description: LMH6505 Datasheet; ComponentLink1URL: http://www.national.com/ds/LM/LMH6505.pdf; ComponentLink2Description: LMH6505 Web Page; ComponentLink2URL: http://www.national.com/pf/LM/LMH6505.html; ComponentLink3Description: MUA08A Package Page; ComponentLink3URL: http://www.national.com/packaging/folders/mua08a.html
footprint MUA08A_N (TSOP, 8-Leads, Body 3x3mm, Pitch 0.65mm, IPC Medium Density)
footprint MUA08A_L (TSOP, 8-Leads, Body 3x3mm, Pitch 0.65mm, IPC High Density)
footprint MUA08A_M (TSOP, 8-Leads, Body 3x3mm, Pitch 0.65mm, IPC Low Density)
simulation model LMH6505 (SUBCKT)
pins: 1 VG, 2 VIN (in), 3 RG, 4 GND (power), 5 V- (power), 6 VOUT (out), 7 I-, 8 V+ (power)

## LMH6505MM/NOPB
designator U?
Wideband, Low Power, Linear-in-dB, Variable Gain Amplifier, 8-pin Mini SOIC, Pb-Free; PartNumber: LMH6505MM/NOPB; Manufacturer: National Semiconductor; PackageTopMarking: ZXTT*AZ2A; PowerWise: Y; CompType: Amplifiers; Published: 1-Mar-2010; DatasheetVersion: Dec-2007; PackageVersion: revF, Apr-2008; PackageReference: MUA08A; Publisher: Altium Limited; PackageDescription: MINI SOIC, .118 x .118 x .034in, 8 Lead, .0256in Pitch; Supplier 1: Digi-Key; Supplier Part Number 1: LMH6505MMTR-ND; Supplier 2: Digi-Key; Supplier Part Number 2: LMH6505MMCT-ND; Supplier 3: Digi-Key; Supplier Part Number 3: LMH6505MMDKR-ND; Supplier 4: Farnell; Supplier Part Number 4: 1559823; RoHS: Y; PinCount: 8; Code_JEDEC: MO-187-AA; ComponentLink1Description: LMH6505 Datasheet; ComponentLink1URL: http://www.national.com/ds/LM/LMH6505.pdf; ComponentLink2Description: LMH6505 Web Page; ComponentLink2URL: http://www.national.com/pf/LM/LMH6505.html; ComponentLink3Description: MUA08A Package Page; ComponentLink3URL: http://www.national.com/packaging/folders/mua08a.html
footprint MUA08A_N (TSOP, 8-Leads, Body 3x3mm, Pitch 0.65mm, IPC Medium Density)
footprint MUA08A_L (TSOP, 8-Leads, Body 3x3mm, Pitch 0.65mm, IPC High Density)
footprint MUA08A_M (TSOP, 8-Leads, Body 3x3mm, Pitch 0.65mm, IPC Low Density)
simulation model LMH6505 (SUBCKT)
pins: 1 VG, 2 VIN (in), 3 RG, 4 GND (power), 5 V- (power), 6 VOUT (out), 7 I-, 8 V+ (power)

## LMH6505MMX
designator U?
Wideband, Low Power, Linear-in-dB, Variable Gain Amplifier, 8-pin Mini SOIC; PartNumber: LMH6505MMX; Manufacturer: National Semiconductor; PackageTopMarking: ZXTT*AZ2A; PowerWise: Y; CompType: Amplifiers; Published: 1-Mar-2010; DatasheetVersion: Dec-2007; PackageVersion: revF, Apr-2008; PackageReference: MUA08A; Publisher: Altium Limited; PackageDescription: MINI SOIC, .118 x .118 x .034in, 8 Lead, .0256in Pitch; RoHS: N; PinCount: 8; Code_JEDEC: MO-187-AA; ComponentLink1Description: LMH6505 Datasheet; ComponentLink1URL: http://www.national.com/ds/LM/LMH6505.pdf; ComponentLink2Description: LMH6505 Web Page; ComponentLink2URL: http://www.national.com/pf/LM/LMH6505.html; ComponentLink3Description: MUA08A Package Page; ComponentLink3URL: http://www.national.com/packaging/folders/mua08a.html
footprint MUA08A_N (TSOP, 8-Leads, Body 3x3mm, Pitch 0.65mm, IPC Medium Density)
footprint MUA08A_L (TSOP, 8-Leads, Body 3x3mm, Pitch 0.65mm, IPC High Density)
footprint MUA08A_M (TSOP, 8-Leads, Body 3x3mm, Pitch 0.65mm, IPC Low Density)
simulation model LMH6505 (SUBCKT)
pins: 1 VG, 2 VIN (in), 3 RG, 4 GND (power), 5 V- (power), 6 VOUT (out), 7 I-, 8 V+ (power)

## LMH6505MMX/NOPB
designator U?
Wideband, Low Power, Linear-in-dB, Variable Gain Amplifier, 8-pin Mini SOIC, Pb-Free; PartNumber: LMH6505MMX/NOPB; Manufacturer: National Semiconductor; PackageTopMarking: ZXTT*AZ2A; PowerWise: Y; CompType: Amplifiers; Published: 1-Mar-2010; DatasheetVersion: Dec-2007; PackageVersion: revF, Apr-2008; PackageReference: MUA08A; Publisher: Altium Limited; PackageDescription: MINI SOIC, .118 x .118 x .034in, 8 Lead, .0256in Pitch; Supplier 1: Digi-Key; Supplier Part Number 1: LMH6505MMX-ND; RoHS: Y; PinCount: 8; Code_JEDEC: MO-187-AA; ComponentLink1Description: LMH6505 Datasheet; ComponentLink1URL: http://www.national.com/ds/LM/LMH6505.pdf; ComponentLink2Description: LMH6505 Web Page; ComponentLink2URL: http://www.national.com/pf/LM/LMH6505.html; ComponentLink3Description: MUA08A Package Page; ComponentLink3URL: http://www.national.com/packaging/folders/mua08a.html
footprint MUA08A_N (TSOP, 8-Leads, Body 3x3mm, Pitch 0.65mm, IPC Medium Density)
footprint MUA08A_L (TSOP, 8-Leads, Body 3x3mm, Pitch 0.65mm, IPC High Density)
footprint MUA08A_M (TSOP, 8-Leads, Body 3x3mm, Pitch 0.65mm, IPC Low Density)
simulation model LMH6505 (SUBCKT)
pins: 1 VG, 2 VIN (in), 3 RG, 4 GND (power), 5 V- (power), 6 VOUT (out), 7 I-, 8 V+ (power)

## LMH6514SQ
designator U?
600 MHz, Digital Controlled, Variable Gain Amplifier, 16-pin LLP; PartNumber: LMH6514SQ; Manufacturer: National Semiconductor; PackageTopMarking: NS*UZXYTT*L6514SQ; PowerWise: Y; CompType: Amplifiers; Published: 4-Dec-2008; DatasheetVersion: Jan-2008; PackageVersion: revA, Oct-2003; PackageReference: SQA16A; Publisher: Altium Limited; PackageDescription: LLP, Plastic, Quad, 4 x 4 x 0.8mm Body, 16 Lead, 0.5mm Pitch, No Pullback; RoHS: Y; PinCount: 16; ComponentLink1Description: LMH6514 Datasheet; ComponentLink1URL: http://www.national.com/ds/LM/LMH6514.pdf; ComponentLink2Description: LMH6514 Web Page; ComponentLink2URL: http://www.national.com/pf/LM/LMH6514.html; ComponentLink3Description: SQA16A Package Page; ComponentLink3URL: http://www.national.com/packaging/folders/sqa16a.html
footprint SQA16A (QFN, 16-Leads, Body 4x4mm, Pitch 0.5mm, NSC Recommended)
pins: 1 NC, 2 LATCH (in), 3 V+ (power), 4 NC, 5 GND (power), 6 IN+ (in), 7 IN- (in), 8 GND (power), 9 GAIN2, 10 GAIN1, 11 GAIN0, 12 NC, 13 LOAD+, 14 OUT+ (oc), 15 OUT- (oc), 16 LOAD-, 17 GND (power)

## LMH6514SQ/NOPB
designator U?
600 MHz, Digital Controlled, Variable Gain Amplifier, 16-pin LLP, Pb-Free; PartNumber: LMH6514SQ/NOPB; Manufacturer: National Semiconductor; PackageTopMarking: NS*UZXYTT*L6514SQ; PowerWise: Y; CompType: Amplifiers; Published: 1-Mar-2010; DatasheetVersion: Jan-2008; PackageVersion: revA, Oct-2003; PackageReference: SQA16A; Publisher: Altium Limited; PackageDescription: LLP, Plastic, Quad, 4 x 4 x 0.8mm Body, 16 Lead, 0.5mm Pitch, No Pullback; Supplier 1: Digi-Key; Supplier Part Number 1: LMH6514SQ-ND; RoHS: Y; PinCount: 16; ComponentLink1Description: LMH6514 Datasheet; ComponentLink1URL: http://www.national.com/ds/LM/LMH6514.pdf; ComponentLink2Description: LMH6514 Web Page; ComponentLink2URL: http://www.national.com/pf/LM/LMH6514.html; ComponentLink3Description: SQA16A Package Page; ComponentLink3URL: http://www.national.com/packaging/folders/sqa16a.html
footprint SQA16A (QFN, 16-Leads, Body 4x4mm, Pitch 0.5mm, NSC Recommended)
pins: 1 NC, 2 LATCH (in), 3 V+ (power), 4 NC, 5 GND (power), 6 IN+ (in), 7 IN- (in), 8 GND (power), 9 GAIN2, 10 GAIN1, 11 GAIN0, 12 NC, 13 LOAD+, 14 OUT+ (oc), 15 OUT- (oc), 16 LOAD-, 17 GND (power)

## LMH6514SQE/NOPB
designator U?
600 MHz, Digital Controlled, Variable Gain Amplifier, 16-pin LLP, Pb-Free; PartNumber: LMH6514SQE/NOPB; Manufacturer: National Semiconductor; PackageTopMarking: NS*UZXYTT*L6514SQ; PowerWise: Y; CompType: Amplifiers; Published: 1-Mar-2010; DatasheetVersion: Jan-2008; PackageVersion: revA, Oct-2003; PackageReference: SQA16A; Publisher: Altium Limited; PackageDescription: LLP, Plastic, Quad, 4 x 4 x 0.8mm Body, 16 Lead, 0.5mm Pitch, No Pullback; Supplier 1: Digi-Key; Supplier Part Number 1: LMH6514SQETR-ND; Supplier 2: Digi-Key; Supplier Part Number 2: LMH6514SQECT-ND; Supplier 3: Digi-Key; Supplier Part Number 3: LMH6514SQEDKR-ND; RoHS: Y; PinCount: 16; ComponentLink1Description: LMH6514 Datasheet; ComponentLink1URL: http://www.national.com/ds/LM/LMH6514.pdf; ComponentLink2Description: LMH6514 Web Page; ComponentLink2URL: http://www.national.com/pf/LM/LMH6514.html; ComponentLink3Description: SQA16A Package Page; ComponentLink3URL: http://www.national.com/packaging/folders/sqa16a.html
footprint SQA16A (QFN, 16-Leads, Body 4x4mm, Pitch 0.5mm, NSC Recommended)
pins: 1 NC, 2 LATCH (in), 3 V+ (power), 4 NC, 5 GND (power), 6 IN+ (in), 7 IN- (in), 8 GND (power), 9 GAIN2, 10 GAIN1, 11 GAIN0, 12 NC, 13 LOAD+, 14 OUT+ (oc), 15 OUT- (oc), 16 LOAD-, 17 GND (power)

## LMH6514SQX/NOPB
designator U?
600 MHz, Digital Controlled, Variable Gain Amplifier, 16-pin LLP, Pb-Free; PartNumber: LMH6514SQX/NOPB; Manufacturer: National Semiconductor; PackageTopMarking: NS*UZXYTT*L6514SQ; PowerWise: Y; CompType: Amplifiers; Published: 1-Mar-2010; DatasheetVersion: Jan-2008; PackageVersion: revA, Oct-2003; PackageReference: SQA16A; Publisher: Altium Limited; PackageDescription: LLP, Plastic, Quad, 4 x 4 x 0.8mm Body, 16 Lead, 0.5mm Pitch, No Pullback; Supplier 1: Digi-Key; Supplier Part Number 1: LMH6514SQX-ND; RoHS: Y; PinCount: 16; ComponentLink1Description: LMH6514 Datasheet; ComponentLink1URL: http://www.national.com/ds/LM/LMH6514.pdf; ComponentLink2Description: LMH6514 Web Page; ComponentLink2URL: http://www.national.com/pf/LM/LMH6514.html; ComponentLink3Description: SQA16A Package Page; ComponentLink3URL: http://www.national.com/packaging/folders/sqa16a.html
footprint SQA16A (QFN, 16-Leads, Body 4x4mm, Pitch 0.5mm, NSC Recommended)
pins: 1 NC, 2 LATCH (in), 3 V+ (power), 4 NC, 5 GND (power), 6 IN+ (in), 7 IN- (in), 8 GND (power), 9 GAIN2, 10 GAIN1, 11 GAIN0, 12 NC, 13 LOAD+, 14 OUT+ (oc), 15 OUT- (oc), 16 LOAD-, 17 GND (power)

## LMH6515SQ
designator U?
600 MHz, Digital Controlled, Variable Gain Amplifier, 16-pin LLP; PartNumber: LMH6515SQ; Manufacturer: National Semiconductor; PackageTopMarking: NS*UZXYTT*L6515SQ; PowerWise: Y; CompType: Amplifiers; Published: 4-Dec-2008; LatestRevisionDate: 30-Oct-2009; LatestRevisionNote: Single Op Amp replaced with Dual Op Amp.; DatasheetVersion: Oct-2007; PackageVersion: revA, Oct-2003; PackageReference: SQA16A; Publisher: Altium Limited; PackageDescription: LLP, Plastic, Quad, 4 x 4 x 0.8mm Body, 16 Lead, 0.5mm Pitch, No Pullback; Supplier 1: Farnell; Supplier Part Number 1: 1471250; RoHS: Y; PinCount: 16; ComponentLink1Description: LMH6515 Datasheet; ComponentLink1URL: http://www.national.com/ds/LM/LMH6515.pdf; ComponentLink2Description: LMH6515 Web Page; ComponentLink2URL: http://www.national.com/pf/LM/LMH6515.html; ComponentLink3Description: SQA16A Package Page; ComponentLink3URL: http://www.national.com/packaging/folders/sqa16a.html
footprint SQA16A (QFN, 16-Leads, Body 4x4mm, Pitch 0.5mm, NSC Recommended)
pins: 1 GAIN0, 2 LATCH (in), 3 VCC (power), 4 NC, 5 GND (power), 6 IN+ (in), 7 IN- (in), 8 GND (power), 9 GAIN4, 10 GAIN3, 11 GAIN2, 12 GAIN1, 13 LOAD+, 14 OUT+ (oc), 15 OUT- (oc), 16 LOAD-, 17 GND (power)

## LMH6515SQ/NOPB
designator U?
600 MHz, Digital Controlled, Variable Gain Amplifier, 16-pin LLP, Pb-Free; PartNumber: LMH6515SQ/NOPB; Manufacturer: National Semiconductor; PackageTopMarking: NS*UZXYTT*L6515SQ; PowerWise: Y; CompType: Amplifiers; Published: 1-Mar-2010; DatasheetVersion: Oct-2007; PackageVersion: revA, Oct-2003; PackageReference: SQA16A; Publisher: Altium Limited; PackageDescription: LLP, Plastic, Quad, 4 x 4 x 0.8mm Body, 16 Lead, 0.5mm Pitch, No Pullback; Supplier 1: Digi-Key; Supplier Part Number 1: LMH6515SQTR-ND; Supplier 2: Digi-Key; Supplier Part Number 2: LMH6515SQCT-ND; Supplier 3: Digi-Key; Supplier Part Number 3: LMH6515SQDKR-ND; Supplier 4: Farnell; Supplier Part Number 4: 1468070; RoHS: Y; PinCount: 16; ComponentLink1Description: LMH6515 Datasheet; ComponentLink1URL: http://www.national.com/ds/LM/LMH6515.pdf; ComponentLink2Description: LMH6515 Web Page; ComponentLink2URL: http://www.national.com/pf/LM/LMH6515.html; ComponentLink3Description: SQA16A Package Page; ComponentLink3URL: http://www.national.com/packaging/folders/sqa16a.html
footprint SQA16A (QFN, 16-Leads, Body 4x4mm, Pitch 0.5mm, NSC Recommended)
pins: 1 GAIN0, 2 LATCH (in), 3 VCC (power), 4 NC, 5 GND (power), 6 IN+ (in), 7 IN- (in), 8 GND (power), 9 GAIN4, 10 GAIN3, 11 GAIN2, 12 GAIN1, 13 LOAD+, 14 OUT+ (oc), 15 OUT- (oc), 16 LOAD-, 17 GND (power)

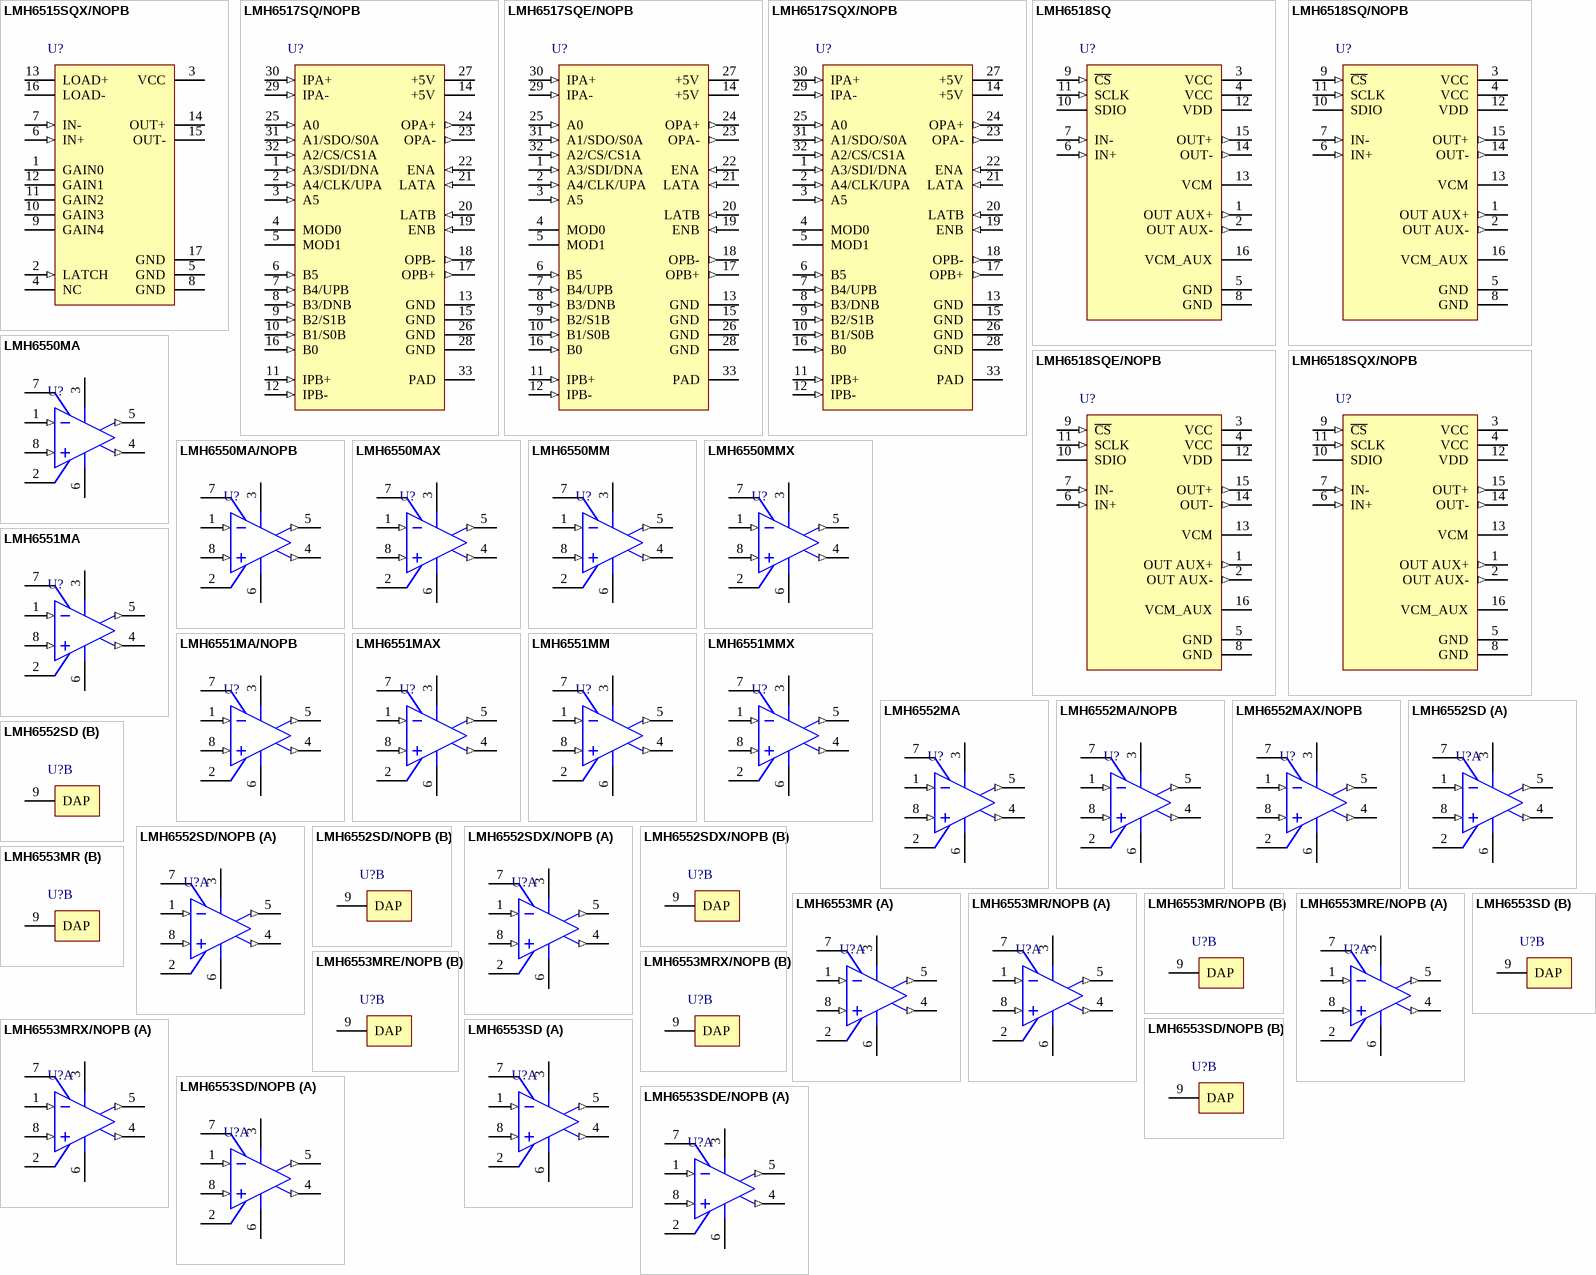
[diagram p41: symbols LMH6515SQX/NOPB to LMH6553SDE/NOPB]

## LMH6515SQX/NOPB
designator U?
600 MHz, Digital Controlled, Variable Gain Amplifier, 16-pin LLP, Pb-Free; PartNumber: LMH6515SQX/NOPB; Manufacturer: National Semiconductor; PackageTopMarking: NS*UZXYTT*L6515SQ; PowerWise: Y; CompType: Amplifiers; Published: 1-Mar-2010; DatasheetVersion: Oct-2007; PackageVersion: revA, Oct-2003; PackageReference: SQA16A; Publisher: Altium Limited; PackageDescription: LLP, Plastic, Quad, 4 x 4 x 0.8mm Body, 16 Lead, 0.5mm Pitch, No Pullback; Supplier 1: Digi-Key; Supplier Part Number 1: LMH6515SQX-ND; RoHS: Y; PinCount: 16; ComponentLink1Description: LMH6515 Datasheet; ComponentLink1URL: http://www.national.com/ds/LM/LMH6515.pdf; ComponentLink2Description: LMH6515 Web Page; ComponentLink2URL: http://www.national.com/pf/LM/LMH6515.html; ComponentLink3Description: SQA16A Package Page; ComponentLink3URL: http://www.national.com/packaging/folders/sqa16a.html
footprint SQA16A (QFN, 16-Leads, Body 4x4mm, Pitch 0.5mm, NSC Recommended)
pins: 1 GAIN0, 2 LATCH (in), 3 VCC (power), 4 NC, 5 GND (power), 6 IN+ (in), 7 IN- (in), 8 GND (power), 9 GAIN4, 10 GAIN3, 11 GAIN2, 12 GAIN1, 13 LOAD+, 14 OUT+ (oc), 15 OUT- (oc), 16 LOAD-, 17 GND (power)

## LMH6517SQ/NOPB
designator U?
Low Power, Low Noise IF and Baseband Dual 16 bit ADC Driver With Digitally Controlled Gain, 32 pin LLP, Pb-Free; PartNumber: LMH6517SQ/NOPB; Manufacturer: National Semiconductor; PackageTopMarking: NS*UZXYTT*L6517SQ; PowerWise: N; CompType: Amplifiers; Published: 1-Mar-2010; DatasheetVersion: Nov-2009; PackageVersion: revB, Oct-2009; PackageReference: SQA32A; Publisher: Altium Limited; PackageDescription: LLP, Quad, 5 x 5 x 0.8mm, 32 Lead, 0.5mm Pitch, No Pullback 3.1 x 3.1 Exposed Pad; Supplier 1: Digi-Key; Supplier Part Number 1: LMH6517SQ-ND; RoHS: Y; PinCount: 32; ComponentLink1Description: LMH6517 Datasheet; ComponentLink1URL: http://www.national.com/ds/LM/LMH6517.pdf; ComponentLink2Description: LMH6517 Web Page; ComponentLink2URL: http://www.national.com/pf/LM/LMH6517.html; ComponentLink3Description: SQA32A Package Page; ComponentLink3URL: http://www.national.com/packaging/folders/sqa32a.html
footprint SQA32A (QFN, 32-Leads, Body 5x5mm, Pitch 0.5mm, NSC Recommended)
pins: 1 A3/SDI/DNA (in), 2 A4/CLK/UPA (in), 3 A5 (in), 4 MOD0, 5 MOD1, 6 B5 (in), 7 B4/UPB (in), 8 B3/DNB (in), 9 B2/S1B (in), 10 B1/S0B (in), 11 IPB+ (in), 12 IPB- (in), 13 GND (power), 14 +5V (power), 15 GND (power), 16 B0 (in), 17 OPB+ (out), 18 OPB- (out), 19 ENB (in), 20 LATB (in), 21 LATA (in), 22 ENA (in), 23 OPA- (out), 24 OPA+ (out), 25 A0 (in), 26 GND (power), 27 +5V (power), 28 GND (power), 29 IPA- (in), 30 IPA+ (in), 31 A1/SDO/S0A (in), 32 A2/CS/CS1A (in), 33 PAD (power)

## LMH6517SQE/NOPB
designator U?
Low Power, Low Noise IF and Baseband Dual 16 bit ADC Driver With Digitally Controlled Gain, 32 pin LLP, Pb-Free; PartNumber: LMH6517SQE/NOPB; Manufacturer: National Semiconductor; PackageTopMarking: NS*UZXYTT*L6517SQ; PowerWise: N; CompType: Amplifiers; Published: 1-Mar-2010; DatasheetVersion: Nov-2009; PackageVersion: revB, Oct-2009; PackageReference: SQA32A; Publisher: Altium Limited; PackageDescription: LLP, Quad, 5 x 5 x 0.8mm, 32 Lead, 0.5mm Pitch, No Pullback 3.1 x 3.1 Exposed Pad; Supplier 1: Digi-Key; Supplier Part Number 1: LMH6517SQETR-ND; Supplier 2: Digi-Key; Supplier Part Number 2: LMH6517SQECT-ND; Supplier 3: Digi-Key; Supplier Part Number 3: LMH6517SQEDKR-ND; RoHS: Y; PinCount: 32; ComponentLink1Description: LMH6517 Datasheet; ComponentLink1URL: http://www.national.com/ds/LM/LMH6517.pdf; ComponentLink2Description: LMH6517 Web Page; ComponentLink2URL: http://www.national.com/pf/LM/LMH6517.html; ComponentLink3Description: SQA32A Package Page; ComponentLink3URL: http://www.national.com/packaging/folders/sqa32a.html
footprint SQA32A (QFN, 32-Leads, Body 5x5mm, Pitch 0.5mm, NSC Recommended)
pins: 1 A3/SDI/DNA (in), 2 A4/CLK/UPA (in), 3 A5 (in), 4 MOD0, 5 MOD1, 6 B5 (in), 7 B4/UPB (in), 8 B3/DNB (in), 9 B2/S1B (in), 10 B1/S0B (in), 11 IPB+ (in), 12 IPB- (in), 13 GND (power), 14 +5V (power), 15 GND (power), 16 B0 (in), 17 OPB+ (out), 18 OPB- (out), 19 ENB (in), 20 LATB (in), 21 LATA (in), 22 ENA (in), 23 OPA- (out), 24 OPA+ (out), 25 A0 (in), 26 GND (power), 27 +5V (power), 28 GND (power), 29 IPA- (in), 30 IPA+ (in), 31 A1/SDO/S0A (in), 32 A2/CS/CS1A (in), 33 PAD (power)